# EAGLE library part SCREEN (library Project)
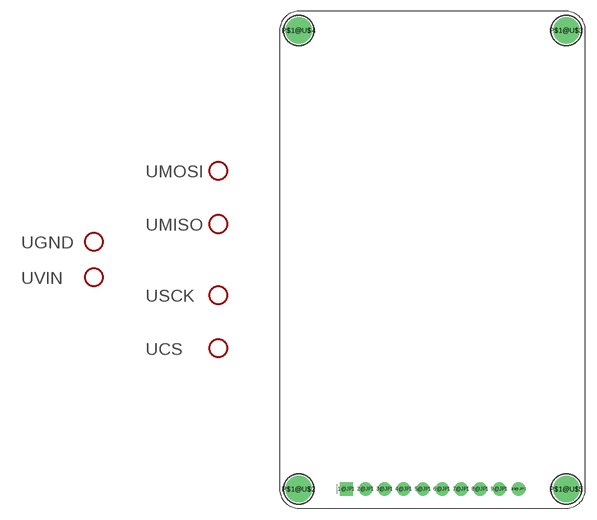
[diagram p1: symbol with the pads of SCREEN; footprint SCREEN]

Designator prefix -; gates GND=SCREEN_PWR VIN=SCREEN_PWR MOSI=SCREEN_SIGNAL MISO=SCREEN_SIGNAL SCK=SCREEN_SIGNAL CS=SCREEN_SIGNAL

## SCREEN  [SCREEN]
1@JP1  GND:PWR
2@JP1  VIN:PWR
5@JP1  CS:PWR
6@JP1  MOSI:PWR
7@JP1  MISO:PWR
8@JP1  SCK:PWR

## Footprint SCREEN (pad centres in mm)
Package generated by make-group2pac.ulp from: C:/Users/kiran/School/Spring 2022/ENGI 301/Project 2/Adafruit-2.2-SPI-TFT-master/Adafruit_2.2_SPI_240x320.brd at: 5/2/2022 8:43 AM
drill 1 pad 1.778 square: 1@JP1 -11.43,-33
drill 1 pad 1.778: 2@JP1 -8.89,-33; 3@JP1 -6.35,-33; 4@JP1 -3.81,-33; 5@JP1 -1.27,-33; 6@JP1 1.27,-33; 7@JP1 3.81,-33; 8@JP1 6.35,-33; 9@JP1 8.89,-33; 10@JP1 11.43,-33
drill 2.5 pad 3.2: P$1@U$2 -17.78,-33.02; P$1@U$3 17.78,27.94; P$1@U$4 -17.78,27.94; P$1@U$5 17.78,-33.02